# Altium schematic symbol library MAX1555.SchLib: 1 symbol
Pins are listed as number, name and electrical type; pins without a type are passive.

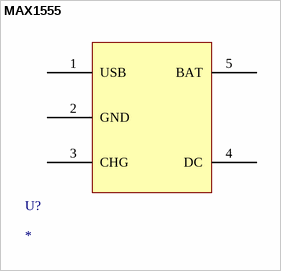
[diagram p0: symbol MAX1555]

## MAX1555
designator U?
MAX1555
footprint SOT95P273X110-5N (SOT23, 5-Leads, Body 3.0x2.8mm (max), Pitch 0.95mm, IPC Medium Density)
pins: 1 USB, 2 GND, 3 CHG, 4 DC, 5 BAT